# Altium footprint library ATMega32U2.PcbLib: 2 footprints
Each footprint in its own frame and in the unit in brackets; x right, y up, seen from the top. Pads: shape width x height; smd on the part's side, far side on the other; paste and mask are expansions set on the pad; w line width, h text height; cw(c..) or ccw(c..) is an arc to the next point about the centre after c.
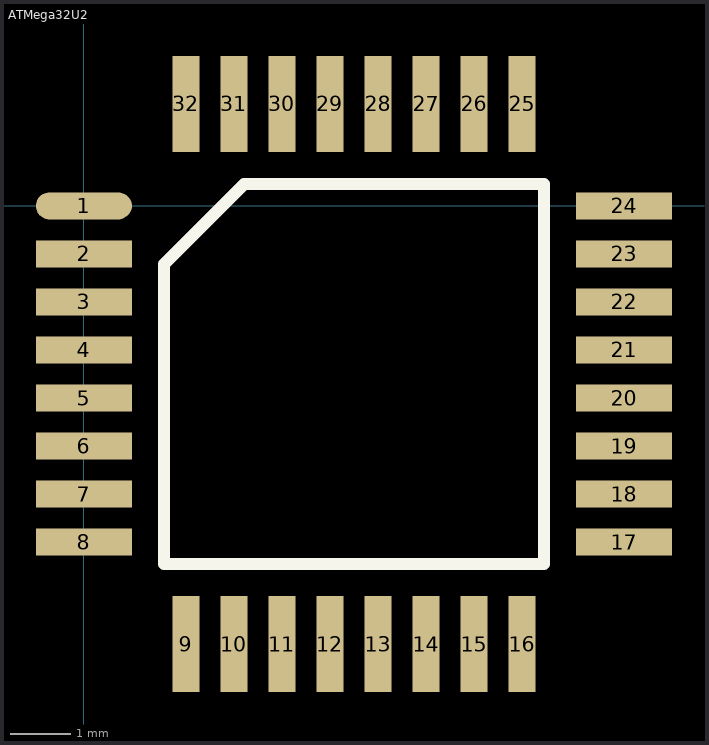
[diagram p0: the footprints below, top view; thin cyan lines are the x and y axes]

## ATMega32U2 [mm]
pads (32):
  oval 1.6x0.45 smd: 1(0,0)
  rect 1.6x0.45 smd: 2(0,-0.8) 3(0,-1.6) 4(0,-2.4) 5(0,-3.2) 6(0,-4) 7(0,-4.8) 8(0,-5.6) 17(9,-5.6) 18(9,-4.8) 19(9,-4) 20(9,-3.2) 21(9,-2.4) 22(9,-1.6) 23(9,-0.8) 24(9,0)
  rect 0.45x1.6 smd: 9(1.7,-7.3) 10(2.5,-7.3) 11(3.3,-7.3) 12(4.1,-7.3) 13(4.9,-7.3) 14(5.7,-7.3) 15(6.5,-7.3) 16(7.3,-7.3) 25(7.3,1.7) 26(6.5,1.7) 27(5.7,1.7) 28(4.9,1.7) 29(4.1,1.7) 30(3.3,1.7) 31(2.5,1.7) 32(1.7,1.7)
Top Overlay:
  lines w0.2: 1.335,-5.965 1.335,-0.97 2.67,0.365 7.665,0.365 7.665,-5.965 1.335,-5.965

## PCBComponent_1 [mm]